# Altium footprint library Citizen CS20.PcbLib: 1 footprints
Each footprint in its own frame and in the unit in brackets; x right, y up, seen from the top. Pads: shape width x height; smd on the part's side, far side on the other; paste and mask are expansions set on the pad; w line width, h text height; cw(c..) or ccw(c..) is an arc to the next point about the centre after c.
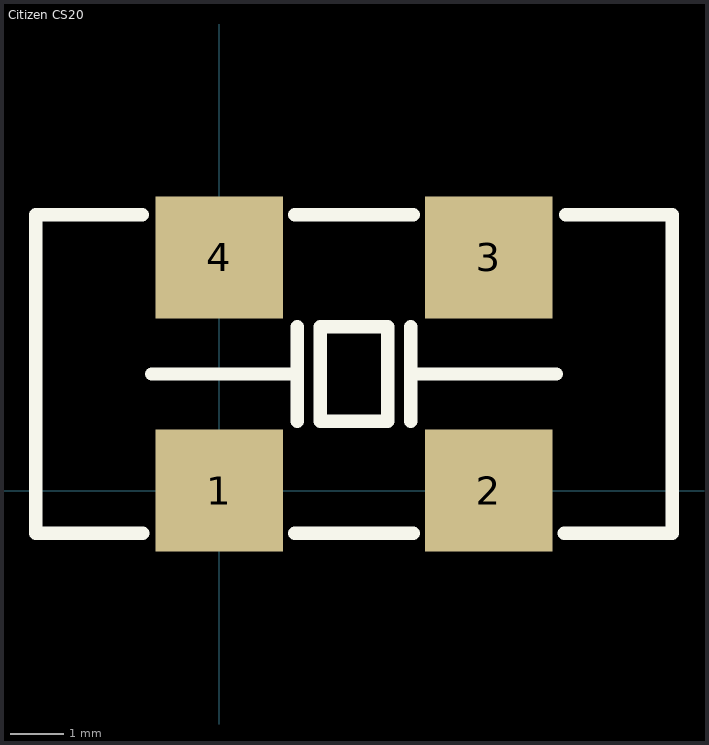
[diagram p0: the footprint, top view; thin cyan lines are the x and y axes]

## Citizen CS20 [mm] "Citizen CS20 Crystal"
height 2
pads (4):
  rect 2.4x2.3 smd: 1(0,0) 2(5.08,0) 3(5.08,4.4) 4(0,4.4)
TopOverlay:
  lines w0.254: -1.451,5.2 -3.46,5.2 -3.46,-0.8 -1.448,-0.8 ; -1.27,2.2 1.473,2.2 ; 1.422,-0.8 3.658,-0.8 ; 1.422,5.2 3.658,5.2 ; 1.473,1.311 1.473,3.089 ; 3.175,1.311 1.905,1.311 1.905,3.089 3.175,3.089 3.175,1.362 ; 3.607,1.311 3.607,3.089 ; 3.607,2.2 6.35,2.2 ; 6.505,-0.8 8.54,-0.8 8.54,5.2 6.531,5.2
Mechanical4:
  text ".181" at 0,0 h0.03
3D body: height 2, standoff 0, extent -3.587,-0.927 8.667,5.327